# EAGLE library part AT86RF231 (library WSNlib)
ATRF231 Radio Tranciever
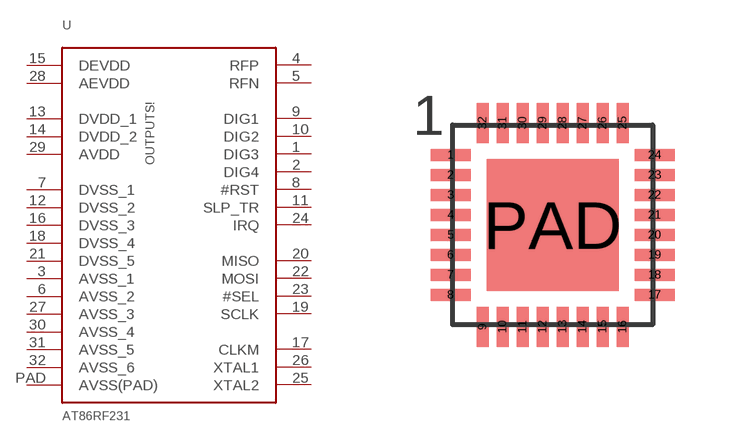
[diagram p0: symbol with the pads of ATRF231_32QN2; footprint ATRF231_32QN2]

Designator prefix U

## AT86RF231  [ATRF231_32QN2]
1  DIG3
2  DIG4
3  AVSS_1
4  RFP
5  RFN
6  AVSS_2
7  DVSS_1
8  #RST
9  DIG1
10  DIG2
11  SLP_TR
12  DVSS_2
13  DVDD_1
14  DVDD_2
15  DEVDD
16  DVSS_3
17  CLKM
18  DVSS_4
19  SCLK
20  MISO
21  DVSS_5
22  MOSI
23  #SEL
24  IRQ
25  XTAL2
26  XTAL1
27  AVSS_3
28  AEVDD
29  AVDD
30  AVSS_4
31  AVSS_5
32  AVSS_6
PAD  AVSS(PAD)

## Footprint ATRF231_32QN2 (pad centres in mm)
5mm x 5mm 32QN2 Footprint for AT86RF231
smd 1 x 0.3: 1 -2.55,1.75; 2 -2.55,1.25; 3 -2.55,0.75; 4 -2.55,0.25; 5 -2.55,-0.25; 6 -2.55,-0.75; 7 -2.55,-1.25; 8 -2.55,-1.75; 17 2.55,-1.75; 18 2.55,-1.25; 19 2.55,-0.75; 20 2.55,-0.25; 21 2.55,0.25; 22 2.55,0.75; 23 2.55,1.25; 24 2.55,1.75
smd 0.3 x 1: 9 -1.75,-2.55; 10 -1.25,-2.55; 11 -0.75,-2.55; 12 -0.25,-2.55; 13 0.25,-2.55; 14 0.75,-2.55; 15 1.25,-2.55; 16 1.75,-2.55; 25 1.75,2.55; 26 1.25,2.55; 27 0.75,2.55; 28 0.25,2.55; 29 -0.25,2.55; 30 -0.75,2.55; 31 -1.25,2.55; 32 -1.75,2.55
smd 3.3 x 3.3: PAD 0,0